# Altium schematic symbol library Degson-uni-2P-35.SchLib: 1 symbol
Pins are listed as number, name and electrical type; pins without a type are passive.

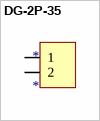
[diagram p0: symbol DG-2P-35]

## DG-2P-35
designator *
footprint DG-2P-35
pins: 1, 2